# EAGLE library part SI1553DL-T1-GE3 (library Vishay)
Complementary 2.5 V (G-S) MOSFET
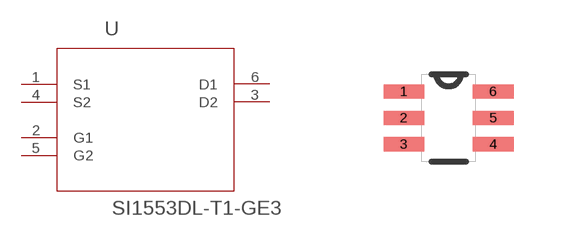
[diagram p76: symbol with the pads of SOT65P210X110-6N; footprint SOT65P210X110-6N]

Designator prefix U

## SI1553DL-T1-GE3 (MPN: SI1553DL-T1-GE3; OC_FARNELL: 2056713; OC_NEWARK: 64T4055; PACKAGE: SOT363-6; SUPPLIER: VISHAY SILICONIX)  [SOT65P210X110-6N]
1  S1  pas
2  G1  pas
3  D2  pas
4  S2  pas
5  G2  pas
6  D1  pas

## Footprint SOT65P210X110-6N (pad centres in mm)
smd 1.016 x 0.356: 1 -1.118,0.66; 2 -1.118,0; 3 -1.118,-0.66; 4 1.118,-0.66; 5 1.118,0; 6 1.118,0.66